# Altium footprint library SOP65P780X200-20N.PcbLib: 1 footprints
Each footprint in its own frame and in the unit in brackets; x right, y up, seen from the top. Pads: shape width x height; smd on the part's side, far side on the other; paste and mask are expansions set on the pad; w line width, h text height; cw(c..) or ccw(c..) is an arc to the next point about the centre after c.
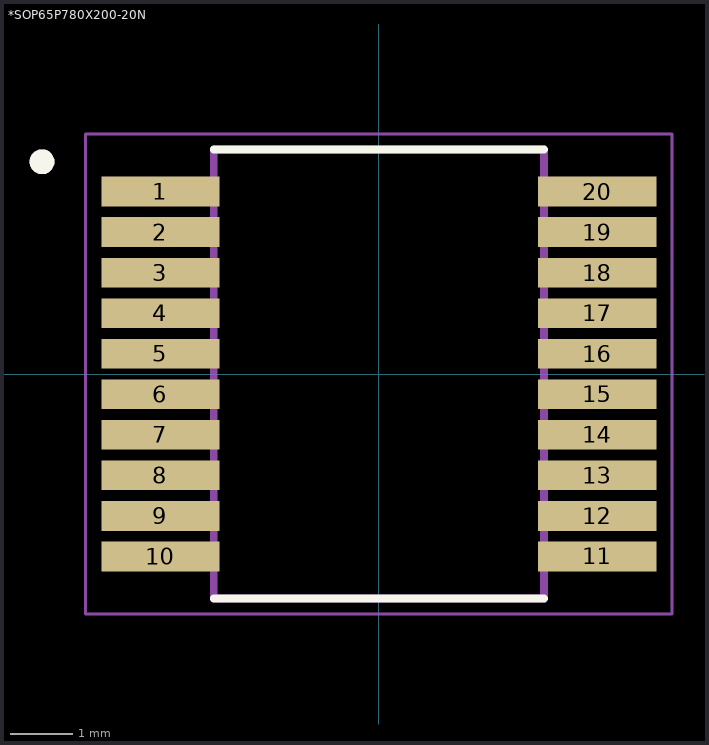
[diagram p0: the footprint, top view; thin cyan lines are the x and y axes]

## *SOP65P780X200-20N [mm]
pads (20):
  rect 1.9x0.48 smd: 1(-3.505,2.925) 2(-3.505,2.275) 3(-3.505,1.625) 4(-3.505,0.975) 5(-3.505,0.325) 6(-3.505,-0.325) 7(-3.505,-0.975) 8(-3.505,-1.625) 9(-3.505,-2.275) 10(-3.505,-2.925) 11(3.505,-2.925) 12(3.505,-2.275) 13(3.505,-1.625) 14(3.505,-0.975) 15(3.505,-0.325) 16(3.505,0.325) 17(3.505,0.975) 18(3.505,1.625) 19(3.505,2.275) 20(3.505,2.925)
Top Overlay:
  circle w0.2: c-5.405,3.405 r0.1
  lines w0.127: -2.65,-3.6 2.65,-3.6 ; -2.65,3.6 2.65,3.6
Mechanical 4:
  circle w0.2: c-5.405,3.405 r0.1
  circle w0.2: c-5.405,3.405 r0.1
  lines w0.127: -2.65,-3.6 -2.65,3.6 ; -2.65,-3.6 2.65,-3.6 ; -2.65,-3.6 -2.65,3.6 ; -2.65,-3.6 2.65,-3.6 ; -2.65,3.6 2.65,3.6 ; -2.65,3.6 2.65,3.6 ; 2.65,-3.6 2.65,3.6 ; 2.65,-3.6 2.65,3.6
Mechanical 16:
  lines w0.05: -4.705,-3.85 -4.705,3.85 4.705,3.85 4.705,-3.85 -4.705,-3.85